# Altium schematic symbol library IC_Port.SchLib: 1 symbol
Pins are listed as number, name and electrical type; pins without a type are passive.

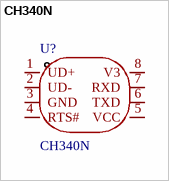
[diagram p0: symbol CH340N]

## CH340N
designator U?
Brand: WCH(南京沁恒); Product ID: C506813; Remark: USB转换芯片; Package: SOP-8; Module: CH340N
footprint SOP-8
pins: 1 UD+, 2 UD-, 3 GND, 4 RTS#, 5 VCC, 6 TXD, 7 RXD, 8 V3